# Altium footprint library Push Button.PcbLib: 1 footprints
Each footprint in its own frame and in the unit in brackets; x right, y up, seen from the top. Pads: shape width x height; smd on the part's side, far side on the other; paste and mask are expansions set on the pad; w line width, h text height; cw(c..) or ccw(c..) is an arc to the next point about the centre after c.
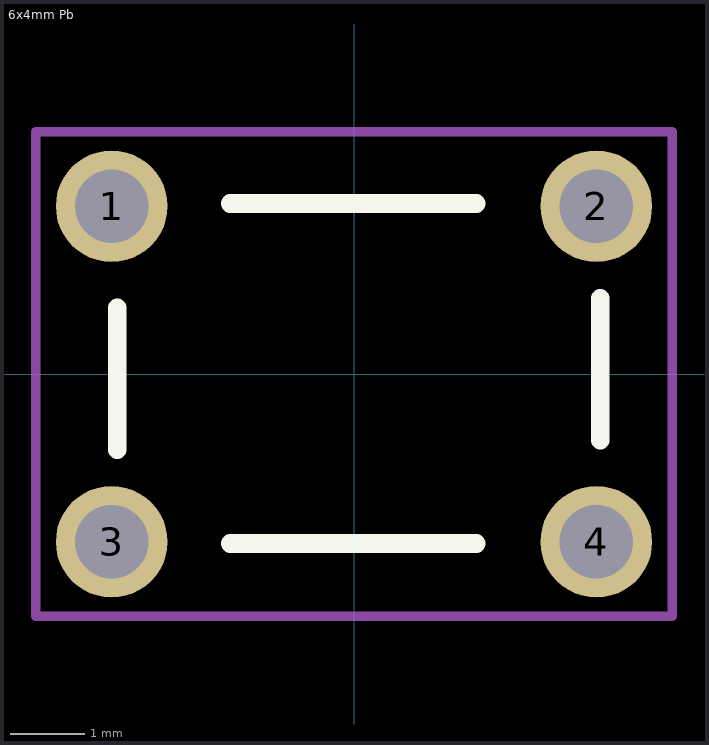
[diagram p0: the footprint, top view; thin cyan lines are the x and y axes]

## 6x4mm Pb [mm]
pads (4):
  round 1.498 hole 0.99: 1(-3.25,2.25) 2(3.25,2.25) 3(-3.25,-2.25) 4(3.25,-2.25)
Top Overlay:
  lines w0.25: -3.175,-1.016 -3.175,0.889 ; -1.661,-2.274 1.641,-2.274 ; -1.661,2.286 1.641,2.286 ; 3.302,-0.889 3.302,1.016
Mechanical 15:
  lines w0.127: -4.267,-3.251 4.267,-3.251 4.267,3.251 -4.267,3.251 -4.267,-3.251
3D body "Switch Push Button.STEP": height 17.01, standoff -3.51, extent -3.9,-2.995 3.898,2.995